# EAGLE library part USB (library nonolith)
USB Connectors USBMINIB - Surface Mount Female Mini-B USB Connector 4UConnector: 06564 By microbuilder.eu
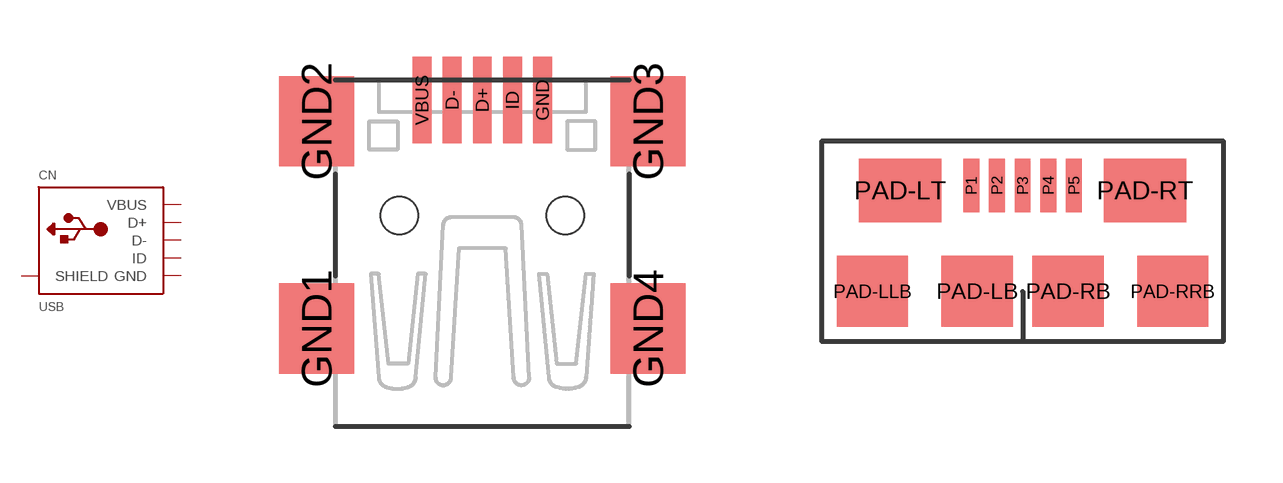
[diagram p25: symbol with the pads of USB-MINIB; footprints USB-MINIB, USB-MICROB]

Designator prefix CN

## USBMINIB  [USB-MINIB]
D+  D+
D-  D-
GND  GND  pwr
GND1  SHIELD
GND2  SHIELD
GND3  SHIELD
GND4  SHIELD
ID  ID
VBUS  VBUS  pwr

## USBMICROB  [USB-MICROB]
P1  VBUS  pwr
P2  D-
P3  D+
P4  ID
P5  GND  pwr
PAD-LB  SHIELD
PAD-LLB  SHIELD
PAD-LT  SHIELD
PAD-RB  SHIELD
PAD-RRB  SHIELD
PAD-RT  SHIELD

## Footprint USB-MINIB (pad centres in mm)
Surface Mount USB Mini-B Connector
smd 0.5 x 2.308: D+ 0,4.064; D- -0.8,4.064; GND 1.6,4.064; ID 0.8,4.064; VBUS -1.6,4.064
smd 2 x 2.4: GND1 -4.4,-2; GND2 -4.4,3.5; GND3 4.4,3.5; GND4 4.4,-2
hole 1 at -2.2,1
hole 1 at 2.2,1

## Footprint USB-MICROB (pad centres in mm)
SMD USB Micro-B connector FCI P/N - 10118192-0001LF DigiKey P/N - 609-4613-1-ND Mouser P/N - 649-10118192-0001LF
smd 0.4 x 1.35: P1 -1.3,2.675; P2 -0.65,2.675; P3 0,2.675; P4 0.65,2.675; P5 1.3,2.675
smd 1.8 x 1.8: PAD-LB -1.15,0; PAD-LLB -3.8,0; PAD-RB 1.15,0; PAD-RRB 3.8,0
smd 2.1 x 1.6: PAD-LT -3.1,2.55; PAD-RT 3.1,2.55